# Altium footprint library Metal_Opera_Resistors.PcbLib: 4 footprints
Each footprint in its own frame and in the unit in brackets; x right, y up, seen from the top. Pads: shape width x height; smd on the part's side, far side on the other; paste and mask are expansions set on the pad; w line width, h text height; cw(c..) or ccw(c..) is an arc to the next point about the centre after c.
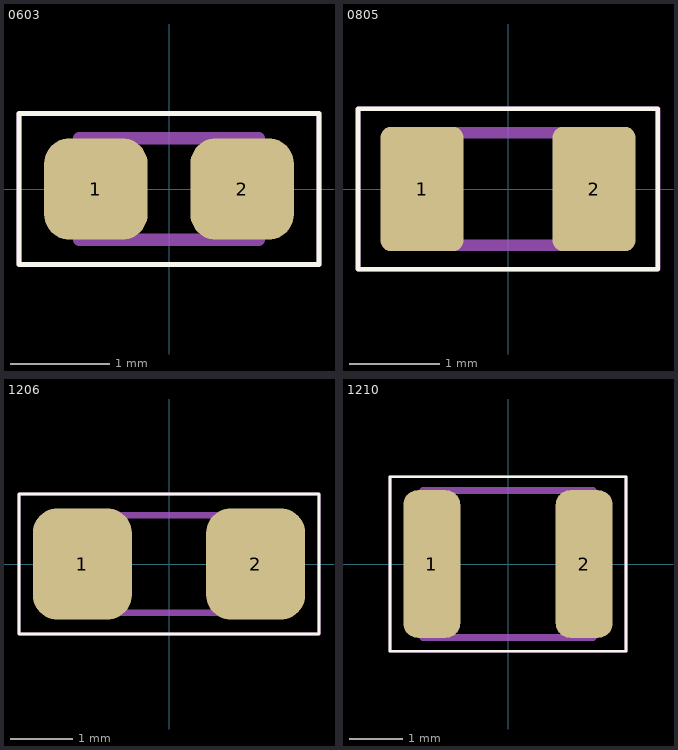
[diagram p0: the footprints below, top view; thin cyan lines are the x and y axes]

## 0603 [mm]
pads (2):
  rrect50% 1.04x1.02 smd: 1(-0.735,0) 2(0.735,0)
Top Overlay:
  lines w0.05: -1.508,-0.761 1.508,-0.761 1.508,0.761 -1.508,0.761 -1.508,-0.761
Mechanical 13:
  lines w0.127: -0.9,-0.51 0.9,-0.51 0.9,0.51 -0.9,0.51 -0.9,-0.51
Mechanical 15:
  lines w0.05: -1.508,-0.761 1.508,-0.761 1.508,0.761 -1.508,0.761 -1.508,-0.761
3D body "User Library-R_0603.step": height 0.5, standoff 0, extent -0.8,-0.45 0.8,0.45

## 0805 [mm]
pads (2):
  rrect25% 0.92x1.38 smd: 1(-0.955,0) 2(0.955,0)
Top Overlay:
  lines w0.05: -1.666,-0.889 -1.666,0.889 1.664,0.889 1.664,-0.889 -1.666,-0.889
Mechanical 13:
  lines w0.127: -1,-0.625 1,-0.625 1,0.625 -1,0.625 -1,-0.625
Mechanical 15:
  lines w0.05: -1.665,-0.889 -1.665,0.889 1.665,0.889 1.665,-0.889 -1.665,-0.889
3D body "User Library-R_0805.step": height 0.5, standoff 0, extent -1,-0.625 1,0.625

## 1206 [mm]
pads (2):
  rrect50% 1.6x1.8 smd: 1(-1.4,0) 2(1.4,0)
Top Overlay:
  lines w0.051: -2.423,-1.133 2.423,-1.133 2.423,1.133 -2.423,1.133 -2.423,-1.133
Mechanical 13:
  lines w0.102: -0.965,-0.787 0.965,-0.787 0.965,0.787 -0.965,0.787 -0.965,-0.787
Mechanical 15:
  lines w0.051: -2.423,-1.133 2.423,-1.133 2.423,1.133 -2.423,1.133 -2.423,-1.133
3D body "User Library-R_1206.step": height 0.6, standoff 0, extent -1.6,-0.8 1.6,0.8

## 1210 [mm]
pads (2):
  rrect50% 1.07x2.77 smd: 1(-1.43,0) 2(1.43,0)
Top Overlay:
  lines w0.05: -2.215,-1.635 2.215,-1.635 2.215,1.635 -2.215,1.635 -2.215,-1.635
Mechanical 13:
  lines w0.127: -1.6,-1.38 1.6,-1.38 1.6,1.38 -1.6,1.38 -1.6,-1.38
Mechanical 15:
  lines w0.05: -2.215,-1.635 2.215,-1.635 2.215,1.635 -2.215,1.635 -2.215,-1.635
3D body "User Library-R_1210.step": height 0.6, standoff 0, extent -1.6,-1.25 1.6,1.25